# EAGLE library part AVR-ISP (library !Treadmill)
Atmel AVR In System Programmer (ISP)
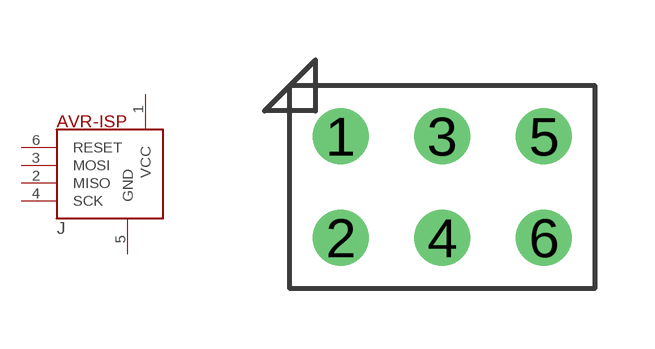
[diagram p1: symbol with the pads of 2X3-0.1HEADER; footprint 2X3-0.1HEADER]

Designator prefix J

## AVR-ISP  [2X3-0.1HEADER]
1  VCC  pwr
2  MISO  in
3  MOSI  out
4  SCK  out
5  GND  pwr
6  RESET  out

## Footprint 2X3-0.1HEADER (pad centres in mm)
drill 0.889 round: 1 -2.54,1.27; 2 -2.54,-1.27; 3 0,1.27; 4 0,-1.27; 5 2.54,1.27; 6 2.54,-1.27